# EAGLE library part BNO055 (library Scott-Sensors)
Intelligent 9-axis absolute orientation sensor
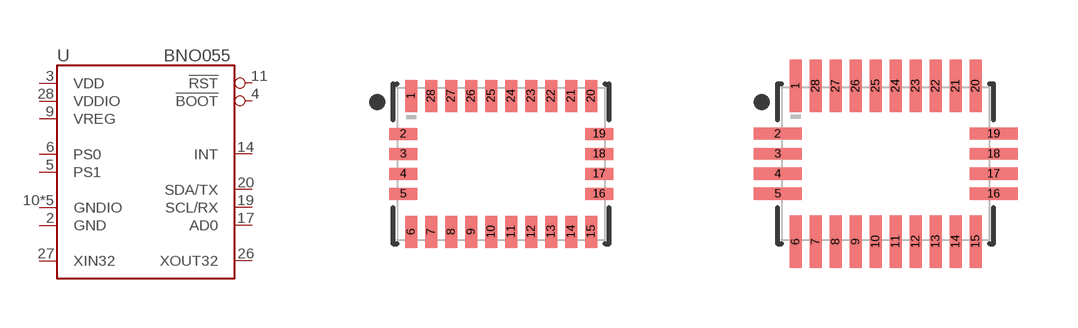
[diagram p2: symbol with the pads of LGA-28-5.2X3.8; footprints LGA-28-5.2X3.8, LGA-28-5.2X3.8-LONG]

Designator prefix U

## BNO055  [LGA-28-5.2X3.8]
2  GND  in
3  VDD  in
4  !BOOT  in
5  PS1  in
6  PS0  in
9  VREG  out
10  GNDIO  in
11  !RST  in
14  INT  out
15  GNDIO  in
16  GNDIO  in
17  AD0  in
18  GNDIO  in
19  SCL/RX  in
20  SDA/TX
25  GNDIO  in
26  XOUT32  out
27  XIN32  in
28  VDDIO  in

## BNO055-LONG  [LGA-28-5.2X3.8-LONG]
Pads as for LGA-28-5.2X3.8

## Footprint LGA-28-5.2X3.8 (pad centres in mm)
smd 0.3 x 0.8: 1 -2.25,1.7; 6 -2.25,-1.7; 7 -1.75,-1.7; 8 -1.25,-1.7; 9 -0.75,-1.7; 10 -0.25,-1.7; 11 0.25,-1.7; 12 0.75,-1.7; 13 1.25,-1.7; 14 1.75,-1.7; 15 2.25,-1.7; 20 2.25,1.7; 21 1.75,1.7; 22 1.25,1.7; 23 0.75,1.7; 24 0.25,1.7; 25 -0.25,1.7; 26 -0.75,1.7; 27 -1.25,1.7; 28 -1.75,1.7
smd 0.7 x 0.3: 2 -2.45,0.75; 3 -2.45,0.25; 4 -2.45,-0.25; 5 -2.45,-0.75; 16 2.45,-0.75; 17 2.45,-0.25; 18 2.45,0.25; 19 2.45,0.75

## Footprint LGA-28-5.2X3.8-LONG (pad centres in mm)
smd 0.3 x 1.3: 1 -2.25,1.95; 6 -2.25,-1.95; 7 -1.75,-1.95; 8 -1.25,-1.95; 9 -0.75,-1.95; 10 -0.25,-1.95; 11 0.25,-1.95; 12 0.75,-1.95; 13 1.25,-1.95; 14 1.75,-1.95; 15 2.25,-1.95; 20 2.25,1.95; 21 1.75,1.95; 22 1.25,1.95; 23 0.75,1.95; 24 0.25,1.95; 25 -0.25,1.95; 26 -0.75,1.95; 27 -1.25,1.95; 28 -1.75,1.95
smd 1.2 x 0.3: 2 -2.7,0.75; 3 -2.7,0.25; 4 -2.7,-0.25; 5 -2.7,-0.75; 16 2.7,-0.75; 17 2.7,-0.25; 18 2.7,0.25; 19 2.7,0.75